# Altium schematic symbol library HSBNE-MAIN.SCHLIB: 49 symbols
Pins are listed as number, name and electrical type; pins without a type are passive.

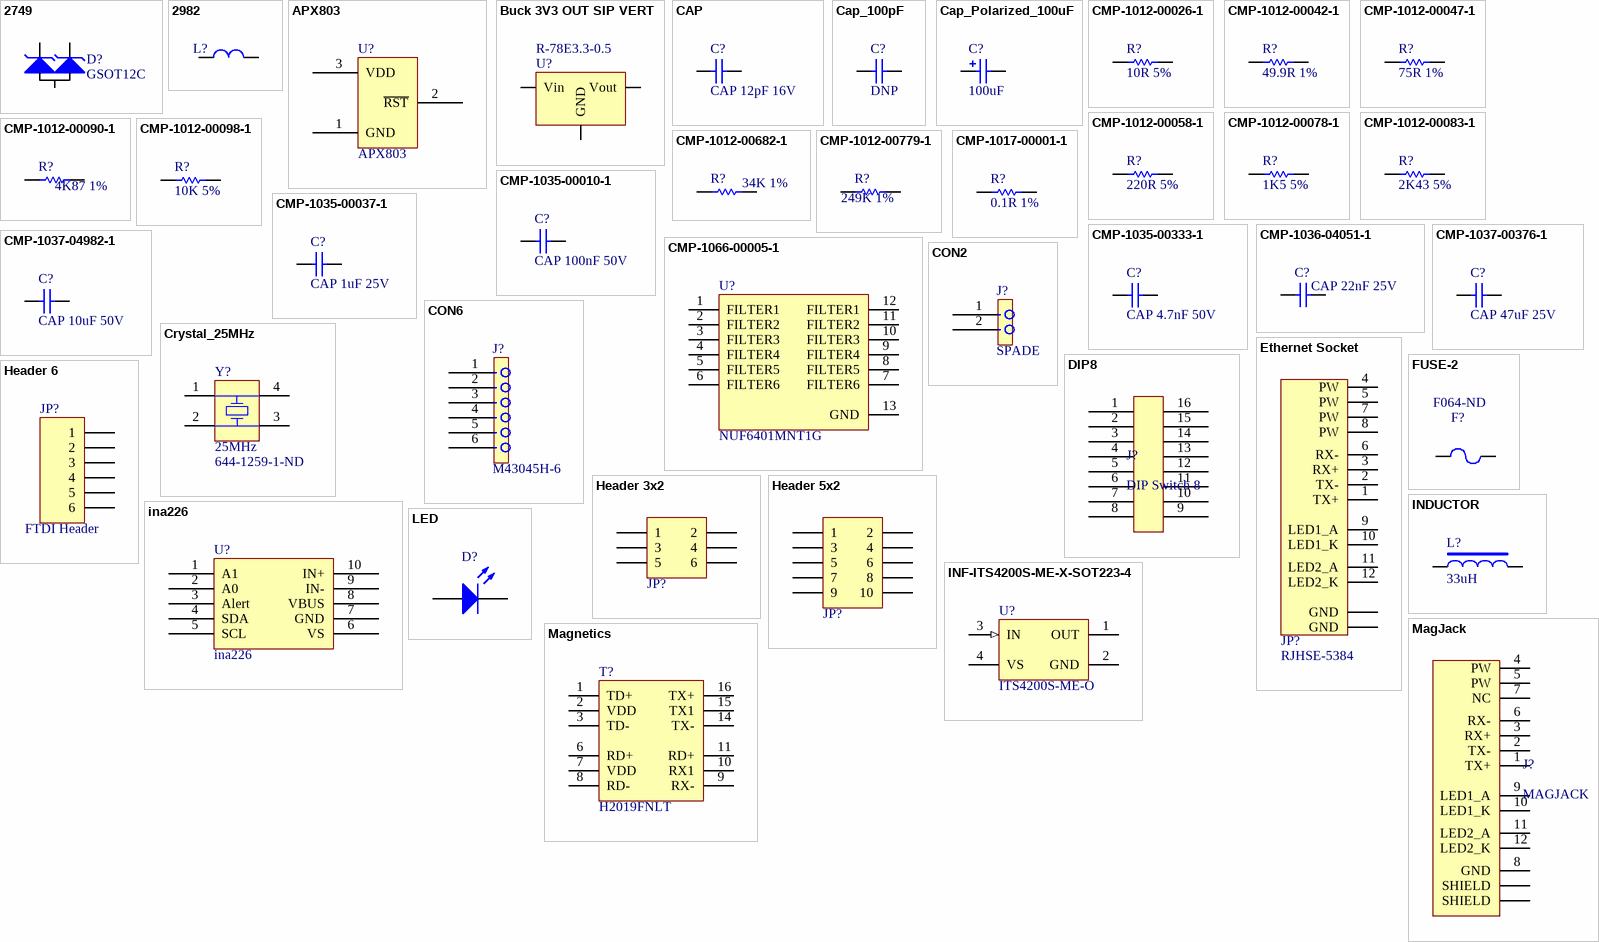
[diagram p0: symbols 2749 to Magnetics]

## 2749
designator D?, comment GSOT12C
DIO GSOT12C ESD 2LINE 12V SOT23; MPN: GSOT12C-E3-08; COST1K: 0.11250; COST10: 0.3750; COST100: 0.25000; MAN: Vishay Semiconductor Diodes Division; SPN: GSOT12C-E3-08DKR-ND; Supplier: Digi-Key
footprint SOT-23 - ESD
footprint SOT-23
pins: 1 K1, 2 K2, 3 A

## 2982
designator L?, comment MPZ1608S102A  (value not drawn)
IND FERRITE CHIP BEAD 1000 OHM @ 100MHz 800mA 0603; COST1K: 0.02717; COST10: 0.0790; COST100: 0.04720; MAN: TDK Corporation; SPN: 445-8694-6-ND; MPN: MPZ1608S102A; Supplier: Digi-Key
footprint 0603
pins: 1, 2

## APX803
designator U?
IC MPU RESET CIRC 3.08V SOT23R-3; Supplier 1: Digi-Key; Supplier Part Number 1: APX803-31SRG-7DICT-ND
footprint SOT-23 - ESD
pins: 1 GND, 2 ~{RST}, 3 VDD

## Buck 3V3 OUT SIP VERT
designator U?, comment R-78E3.3-0.5
3V3 OUT SIP VERT; Supplier 1: Digikey; Supplier Part Number 1: 945-1661-5-ND
footprint Buck_mod
pins: 1 Vin (power), 2 GND (power), 3 Vout (power)

## CAP
designator C?, comment CAP 12pF 16V
CAP 12pF 16V Â±0.25pF 0603 (1608 Metric) Thickness 1mm SMD; Case-EIA: 0603; Case-Metric: 1608; Technology: SMT; Value: 12pF; Max Thickness: 1 mm; Rated Voltage: 16 V; Tolerance: Â±0.25pF
footprint CAPC0603(1608)100_L (Chip Capacitor, Body 1.6x0.8mm, Height 1.0mm, IPC High Density)
footprint CAPC0603(1608)100_N (Chip Capacitor, Body 1.6x0.8mm, Height 1.0mm, IPC Medium Density)
footprint CAPC0603(1608)100_M (Chip Capacitor, Body 1.6x0.8mm, Height 1.0mm, IPC Low Density)
pins: 1, 2
1 alternate drawing of the same symbol

## Cap_100pF
designator C?, comment DNP
100nF; Published: 8-Jun-2000; LatestRevisionDate: 29-May-2009; LatestRevisionNote: IPC-7351 Footprint Added.; PackageReference: C1206; Publisher: Altium Limited; PackageDescription: Chip Capacitor; Value: 100nF; Supplier 1: Digi-Key; Supplier Part Number 1: 399-1096-1-ND; Supplier 2: Mouser; Supplier Part Number 2: 80-C0603C104K3R
simulation model CAP (Semiconductor Capacitor)
footprint 1210 (Chip Resistor; Body 3.2 x 1.6 mm (LxW typ))
footprint 0402 (Chip Resistor; Body 1.1 x 0.5 mm (LxW typ))
footprint 0603
footprint 604
pins: 1, 2

## Cap_Polarized_100uF
designator C?, comment 100uF
Polarized Capacitor (Surface Mount); Published: 8-Jun-2000; LatestRevisionDate: 29-May-2009; LatestRevisionNote: IPC-7351 Footprint Added.; PackageReference: C0805; Publisher: Altium Limited; PackageDescription: Chip Capacitor; Value: 100uF; Supplier 1: Digi-Key; Supplier 2: Mouser; Supplier Part Number 1: PCE4718CT-ND; Supplier Part Number 2: 667-EEE-HAJ101WAR
simulation model CAP (Capacitor)
signal-integrity model Cap Pol
footprint PANASONIC_C
footprint PANASONIC_E
footprint PANASONIC_H13
pins: +, -
1 alternate drawing of the same symbol

## CMP-1012-00026-1
designator R?, comment 10R 5%
10R 0.1W 5% 0603 (1608 Metric)  SMD; Case-Metric: 1608; Case-EIA: 0603; Value: 10.00 Ohm; Technology: SMT; Tolerance: 5 %; Power: 0.1 W
footprint RESC0603(1608)_L (Chip Resistor, Body 1.6x0.8mm, IPC High Density)
footprint RESC0603(1608)_N (Chip Resistor, Body 1.6x0.8mm, IPC Medium Density)
footprint RESC0603(1608)_M (Chip Resistor, Body 1.6x0.8mm, IPC Low Density)
pins: 1, 2
1 alternate drawing of the same symbol

## CMP-1012-00042-1
designator R?, comment 49.9R 1%
49.9R 0.1W 1% 0603 (1608 Metric)  SMD; Tolerance: 5 %; Value: 49.90 Ohm; Case-Metric: 1608; Case-EIA: 0603; Technology: SMT; Power: 0.1 W
footprint RESC0603(1608)_M (Chip Resistor, Body 1.6x0.8mm, IPC Low Density)
footprint RESC0603(1608)_N (Chip Resistor, Body 1.6x0.8mm, IPC Medium Density)
footprint RESC0603(1608)_L (Chip Resistor, Body 1.6x0.8mm, IPC High Density)
pins: 1, 2
1 alternate drawing of the same symbol

## CMP-1012-00047-1
designator R?, comment 75R 1%
75R 0.1W 1% 0603 (1608 Metric)  SMD; Case-EIA: 0603; Value: 75.00 Ohm; Case-Metric: 1608; Tolerance: 5 %; Technology: SMT; Power: 0.1 W
footprint RESC0603(1608)_N (Chip Resistor, Body 1.6x0.8mm, IPC Medium Density)
footprint RESC0603(1608)_L (Chip Resistor, Body 1.6x0.8mm, IPC High Density)
footprint RESC0603(1608)_M (Chip Resistor, Body 1.6x0.8mm, IPC Low Density)
pins: 1, 2
1 alternate drawing of the same symbol

## CMP-1012-00058-1
designator R?, comment 220R 5%
220R 0.1W 5% 0603 (1608 Metric)  SMD; Case-EIA: 0603; Case-Metric: 1608; Value: 220.00 Ohm; Technology: SMT; Power: 0.1 W; Tolerance: 5 %
footprint RESC0603(1608)_M (Chip Resistor, Body 1.6x0.8mm, IPC Low Density)
footprint RESC0603(1608)_N (Chip Resistor, Body 1.6x0.8mm, IPC Medium Density)
footprint RESC0603(1608)_L (Chip Resistor, Body 1.6x0.8mm, IPC High Density)
pins: 1, 2
1 alternate drawing of the same symbol

## CMP-1012-00078-1
designator R?, comment 1K5 5%
1K5 0.1W 5% 0603 (1608 Metric)  SMD; Case-Metric: 1608; Case-EIA: 0603; Value: 1500.00 Ohm; Technology: SMT; Power: 0.1 W; Tolerance: 5 %
footprint RESC0603(1608)_M (Chip Resistor, Body 1.6x0.8mm, IPC Low Density)
footprint RESC0603(1608)_N (Chip Resistor, Body 1.6x0.8mm, IPC Medium Density)
footprint RESC0603(1608)_L (Chip Resistor, Body 1.6x0.8mm, IPC High Density)
pins: 1, 2
1 alternate drawing of the same symbol

## CMP-1012-00083-1
designator R?, comment 2K43 5%
2K43 0.1W 5% 0603 (1608 Metric)  SMD; Value: 2430.00 Ohm; Case-Metric: 1608; Case-EIA: 0603; Tolerance: 5 %; Technology: SMT; Power: 0.1 W
footprint RESC0603(1608)_M (Chip Resistor, Body 1.6x0.8mm, IPC Low Density)
footprint RESC0603(1608)_L (Chip Resistor, Body 1.6x0.8mm, IPC High Density)
footprint RESC0603(1608)_N (Chip Resistor, Body 1.6x0.8mm, IPC Medium Density)
pins: 1, 2
1 alternate drawing of the same symbol

## CMP-1012-00090-1
designator R?, comment 4K87 1%
4K87 0.1W 1% 0603 (1608 Metric)  SMD; Tolerance: 5 %; Case-Metric: 1608; Value: 4K87.00 Ohm; Case-EIA: 0603; Technology: SMT; Power: 0.1 W
footprint RESC0603(1608)_N (Chip Resistor, Body 1.6x0.8mm, IPC Medium Density)
footprint RESC0603(1608)_M (Chip Resistor, Body 1.6x0.8mm, IPC Low Density)
footprint RESC0603(1608)_L (Chip Resistor, Body 1.6x0.8mm, IPC High Density)
pins: 1, 2
1 alternate drawing of the same symbol

## CMP-1012-00098-1
designator R?, comment 10K 5%
10K 0.1W 5% 0603 (1608 Metric)  SMD; Case-EIA: 0603; Value: 10000.00 Ohm; Case-Metric: 1608; Technology: SMT; Tolerance: 5 %; Power: 0.1 W
footprint RESC0603(1608)_N (Chip Resistor, Body 1.6x0.8mm, IPC Medium Density)
footprint RESC0603(1608)_L (Chip Resistor, Body 1.6x0.8mm, IPC High Density)
footprint RESC0603(1608)_M (Chip Resistor, Body 1.6x0.8mm, IPC Low Density)
pins: 1, 2
1 alternate drawing of the same symbol

## CMP-1012-00682-1
designator R?, comment 34K 1%
34K 0.1W 1% 0603 (1608 Metric)  SMD; Value: 34000.00 Ohm; Case-EIA: 0603; Case-Metric: 1608; Tolerance: 1 %; Power: 0.1 W; Technology: SMT
footprint RESC0603(1608)_L (Chip Resistor, Body 1.6x0.8mm, IPC High Density)
footprint RESC0603(1608)_N (Chip Resistor, Body 1.6x0.8mm, IPC Medium Density)
footprint RESC0603(1608)_M (Chip Resistor, Body 1.6x0.8mm, IPC Low Density)
pins: 1, 2
1 alternate drawing of the same symbol

## CMP-1012-00779-1
designator R?, comment 249K 1%
249K 0.1W 1% 0603 (1608 Metric)  SMD; Case-Metric: 1608; Case-EIA: 0603; Value: 249000.00 Ohm; Technology: SMT; Power: 0.1 W; Tolerance: 1 %
footprint RESC0603(1608)_L (Chip Resistor, Body 1.6x0.8mm, IPC High Density)
footprint RESC0603(1608)_N (Chip Resistor, Body 1.6x0.8mm, IPC Medium Density)
footprint RESC0603(1608)_M (Chip Resistor, Body 1.6x0.8mm, IPC Low Density)
pins: 1, 2
1 alternate drawing of the same symbol

## CMP-1017-00001-1
designator R?, comment 0.1R 1%
0.1R 2010 1%; Case-Metric: 5025; Value: 0.10 Ohm; Case-EIA: 2010; Tolerance: None; Technology: SMT; Power: None
footprint RESC2010(5025)_M (Chip Resistor, Body 5.0x2.5mm, IPC Low Density)
footprint RESC2010(5025)_N (Chip Resistor, Body 5.0x2.5mm, IPC Medium Density)
footprint RESC2010(5025)_L (Chip Resistor, Body 5.0x2.5mm, IPC High Density)
pins: 1, 2
1 alternate drawing of the same symbol

## CMP-1035-00010-1
designator C?, comment CAP 100nF 50V
CAP 100nF 50V Â±0.1pF 0603 (1608 Metric) Thickness 1mm SMD; Case-Metric: 1608; Case-EIA: 0603; Tolerance: Â±0.1pF; Technology: SMT; Value: 100nF; Max Thickness: 1 mm; Rated Voltage: 50 V
footprint CAPC0603(1608)100_N (Chip Capacitor, Body 1.6x0.8mm, Height 1.0mm, IPC Medium Density)
footprint CAPC0603(1608)100_M (Chip Capacitor, Body 1.6x0.8mm, Height 1.0mm, IPC Low Density)
footprint CAPC0603(1608)100_L (Chip Capacitor, Body 1.6x0.8mm, Height 1.0mm, IPC High Density)
pins: 1, 2
1 alternate drawing of the same symbol

## CMP-1035-00037-1
designator C?, comment CAP 1uF 25V
CAP 1uF 25V Â±0.25pF 0603 (1608 Metric) Thickness 1mm SMD; Case-Metric: 1608; Case-EIA: 0603; Tolerance: Â±0.25pF; Max Thickness: 1 mm; Value: 1uF; Technology: SMT; Rated Voltage: 25 V
footprint CAPC0603(1608)100_L (Chip Capacitor, Body 1.6x0.8mm, Height 1.0mm, IPC High Density)
footprint CAPC0603(1608)100_M (Chip Capacitor, Body 1.6x0.8mm, Height 1.0mm, IPC Low Density)
footprint CAPC0603(1608)100_N (Chip Capacitor, Body 1.6x0.8mm, Height 1.0mm, IPC Medium Density)
pins: 1, 2
1 alternate drawing of the same symbol

## CMP-1035-00333-1
designator C?, comment CAP 4.7nF 50V
CAP 4.7nF 50V Â±20% 0603 (1608 Metric) Thickness 1mm SMD; Case-EIA: 0603; Case-Metric: 1608; Max Thickness: 1 mm; Rated Voltage: 50 V; Technology: SMT; Tolerance: Â±20%; Value: 4.7nF
footprint CAPC0603(1608)100_N (Chip Capacitor, Body 1.6x0.8mm, Height 1.0mm, IPC Medium Density)
footprint CAPC0603(1608)100_L (Chip Capacitor, Body 1.6x0.8mm, Height 1.0mm, IPC High Density)
footprint CAPC0603(1608)100_M (Chip Capacitor, Body 1.6x0.8mm, Height 1.0mm, IPC Low Density)
pins: 1, 2
1 alternate drawing of the same symbol

## CMP-1036-04051-1
designator C?, comment CAP 22nF 25V
CAP 22nF 25V Â±5% 0805 (2012 Metric) Thickness 1mm SMD; Case-Metric: 2012; Case-EIA: 0805; Technology: SMT; Max Thickness: 1 mm; Value: 22nF; Rated Voltage: 25 V; Tolerance: Â±5%
footprint CAPC0805(2012)100_N (Chip Capacitor, Body 2.0x1.2mm, Height 1.0mm, IPC Medium Density)
footprint CAPC0805(2012)100_M (Chip Capacitor, Body 2.0x1.2mm, Height 1.0mm, IPC Low Density)
footprint CAPC0805(2012)100_L (Chip Capacitor, Body 2.0x1.2mm, Height 1.0mm, IPC High Density)
pins: 1, 2
1 alternate drawing of the same symbol

## CMP-1037-00376-1
designator C?, comment CAP 47uF 25V
CAP 47uF 25V Â±0.25pF 1206 (3216 Metric) Thickness 1mm SMD; Case-EIA: 1206; Case-Metric: 3216; Technology: SMT; Max Thickness: 1 mm; Value: 47uF; Tolerance: Â±0.25pF; Rated Voltage: 25 V
footprint CAPC1206(3216)100_L (Chip Capacitor, Body 3.2x1.6mm, Height 1mm, IPC High Density)
footprint CAPC1206(3216)100_M (Chip Capacitor, Body 3.2x1.6mm, Height 1mm, IPC Low Density)
footprint CAPC1206(3216)100_N (Chip Capacitor, Body 3.2x1.6mm, Height 1mm, IPC Medium Density)
pins: 1, 2
1 alternate drawing of the same symbol

## CMP-1037-04982-1
designator C?, comment CAP 10uF 50V
CAP 10uF 50V Â±10% 1206 (3216 Metric) Thickness 1.9mm SMD; Case-EIA: 1206; Case-Metric: 3216; Technology: SMT; Tolerance: Â±10%; Max Thickness: 1.9 mm; Value: 10uF; Rated Voltage: 50 V
footprint CAPC1206(3216)190_M (Chip Capacitor, Body 3.2x1.6mm, Height 1.9mm, IPC Low Density)
footprint CAPC1206(3216)190_N (Chip Capacitor, Body 3.2x1.6mm, Height 1.9mm, IPC Medium Density)
footprint CAPC1206(3216)190_L (Chip Capacitor, Body 3.2x1.6mm, Height 1.9mm, IPC High Density)
pins: 1, 2
1 alternate drawing of the same symbol

## CMP-1066-00005-1
designator U?, comment NUF6401MNT1G
6-Channel EMI Filter with Integrated ESD Protection, -40 to 105 degC, 12-Pin DFN, Pb-Free, Tape and Reel; Manufacturer: On Semiconductor; Number of Lines: 6; VRWM Max (V): 5; V(BR) Typ (V): 7; PackageReference: DFN-12-506AD-01; PartNumber: NUF6401MNT1G; ComponentLink3Description: Package Specification; RoHS: Pb-Free; Mounting Technology: Surface Mount; ComponentLink2Description: Datasheet; ComponentLink1Description: Manufacturer URL; PackageDescription: 12-Pin Small Outline No-Lead, Body 3 x 1.35 mm, Pitch 0.5 mm; Packing: Tape and Reel; DatasheetVersion: Rev. 2; ComponentLink2URL: http://www.onsemi.com/pub_link/Collateral/NUF6401-D.PDF; PackageVersion: Rev. J, 07/2008; ComponentLink3URL: http://www.onsemi.com/pub_link/Collateral/506AD.PDF; ComponentLink1URL: http://www.onsemi.com/
footprint ONSC-DFN-12-506AD-01_V (SON, 12-Leads, Body 3x1.35mm, Pitch 0.5mm, Thermal Pad 2.352x0.351mm)
pins: 1 FILTER1 "Filter + ESD Channel 1", 2 FILTER2 "Filter + ESD Channel 2", 3 FILTER3 "Filter + ESD Channel 3", 4 FILTER4 "Filter + ESD Channel 4", 5 FILTER5 "Filter + ESD Channel 5", 6 FILTER6 "Filter + ESD Channel 6", 7 FILTER6 "Filter + ESD Channel 6", 8 FILTER5 "Filter + ESD Channel 5", 9 FILTER4 "Filter + ESD Channel 4", 10 FILTER3 "Filter + ESD Channel 3", 11 FILTER2 "Filter + ESD Channel 2", 12 FILTER1 "Filter + ESD Channel 1", 13 GND (power) "Ground"

## CON2
designator J?, comment SPADE
6.35mm right-angle 90° male spade terminal PCB mount; CID: 643; CID2: 643; CID3: 643
footprint M5569-2
footprint SPADE-6.35-RA
pins: 1, 2

## CON6
designator J?, comment M43045H-6
CID: 317
footprint M43045H-6
pins: 1, 2, 3, 4, 5, 6

## Crystal_25MHz
designator Y?, comment Supplier Part Number 1: 644-1259-1-ND  (hidden comment: 25MHz)
Surface Mount Quartz Crystal; Note: PCB layout complies with manufacturer's recommendation.; Published: 17-Jul-2002; DatasheetDocument: 28-Aug-2001; PackageDocument: 28-Aug-2001; PackageReference: 91SMX; Publisher: Altium Limited; ComponentLink1Description: Manufacturer Link; ComponentLink1URL: http://www.cmac.com/mt/; ComponentLink2Description: Datasheet; ComponentLink2URL: http://www.cmac.com/mt/databook/crystals/smd/90_91_smx.pdf; Value: 25MHz; Supplier 1: Digi-Key
footprint Crystal 3.2x2.5
pins: 1 OSC1, 2 OSC2, 3 OSC2, 4 OSC1

## DIP8
designator J?, comment DIP Switch 8
Supplier 1: Digikey; Supplier Part Number 1: CT3111-ND
footprint DIP8
pins: 1, 2, 3, 4, 5, 6, 7, 8, 9, 10, 11, 12, 13, 14, 15, 16

## Ethernet Socket
designator JP?, comment RJHSE-5384
Ethernet Socket RJ45 With Leds; Supplier 1: Digi-Key; Supplier 2: Mouser; Supplier Part Number 1: RJHSE-5384-ND; Supplier Part Number 2: 523-RJHSE-5484
footprint RJHSE-5484
pins: 1 TX+, 2 TX-, 3 RX+, 4 PW, 5 PW, 6 RX-, 7 PW, 8 PW, 9 LED1_A, 10 LED1_K, 11 LED2_A, 12 LED2_K, GND1 GND, GND2 GND

## FUSE-2
designator F?  Supplier Part Number 1: F064-ND
Supplier 1: Digi-Key
footprint FUSE_HOLDER (01530007Z)
pins: 1, 2

## Header 3x2
designator JP?, comment Header 3x2 2.54mm  (value not drawn)
Header, 6-Pin; Supplier 1: Digi-Key; Supplier 2: Mouser; Supplier Part Number 1: 952-1788-ND; Supplier Part Number 2: 855-M20-9980446
footprint 2X3
pins: 1, 2, 3, 4, 5, 6

## Header 5x2
designator JP?, comment Header 5x2 2.54mm  (value not drawn)
Header, 8-Pin; Supplier 1: Farnell; Supplier Part Number 1: 1593440
footprint 2X5
pins: 1, 2, 3, 4, 5, 6, 7, 8, 9, 10

## Header 6
designator JP?, comment FTDI Header
Header, 6-Pin; Supplier 1: Digi-Key; Supplier 2: Mouser; Supplier Part Number 1: 952-2270-ND; Supplier Part Number 2: 538-90120-1086
footprint 1X06_SMD_STRAIGHT_ALT
footprint 1X6
pins: 1, 2, 3, 4, 5, 6

## ina226
designator U?
Supplier 1: Digi-Key; Supplier Part Number 1: 296-29034-1-ND
footprint SP10
pins: 1 A1, 2 A0, 3 Alert, 4 SDA, 5 SCL, 6 VS, 7 GND, 8 VBUS, 9 IN-, 10 IN+

## INDUCTOR
designator L?, comment 33uH
General Inductor; CID: 2749
footprint CR43
footprint ELC08DXXXE
footprint 1422311
footprint CDRH127
footprint SRR6603
pins: 1, 2

## INF-ITS4200S-ME-X-SOT223-4
designator U?, comment ITS4200S-ME-O
Smart High-Side NMOS-Power Switch, 11 to 45 V Operating, -40 to 125 degC, SOT223, Reel, Green; Manufacturer: Infineon; Channels: 1; IL (nom)min - one channel active: 0.7Â A; Green: TRUE; Operating Voltage Range (min): 11 V; RON (max) @ Tj max: 320 mOhm; Operating Voltage Range (max): 45 V; Ptot (max): 1.4Â W; toff (max): 150 us; RON @ 25 degC: 200 mOhm (max); IL (SCp): 1.4Â A; IL (SC): 1.1Â A; ton (max): 100 us; Packing: Reel; IL (nom)min - all channels active: 0.7Â A; ComponentLink2Description: Datasheet; Load Current (typ): 0.7Â A; ComponentLink1Description: Manufacturer URL; PackageDescription: 4-Pin Small Outline Transistor Package, 6.5 x 3.5 mm Body, 2.3 mm Pitch; Mounting Technology: Surface Mount; ComponentLink1URL: http://www.infineon.com/; ComponentLink2URL: http://www.infineon.com/dgdl/ITS4200S-ME-O_01092012S.pdf?folderId=db3a304412b407950112b408e8c90004&fileId=db3a304339dcf4b1013a013fb7455740; ComponentLink3URL: http://www.infineon.com/dgdl/SOT223-Package_Overview.pdf?folderId=db3a30431936bc4b0119530470b03c3d&fileId=db3a30431936bc4b0119531d40b93c5c; PackageReference: SOT223; ComponentLink3Description: Package Specification; PartNumber: ITS4200S-ME-O; DatasheetVersion: Rev. 1.0; PackageVersion: Apr-08
footprint INF-SOT223_M (SOT223, 4-Leads, Body 6.5x3.5mm, Pitch 2.3mm, IPC Low Density)
footprint INF-SOT223_L (SOT223, 4-Leads, Body 6.5x3.5mm, Pitch 2.3mm, IPC High Density)
footprint INF-SOT223_N (SOT223, 4-Leads, Body 6.5x3.5mm, Pitch 2.3mm, IPC Medium Density)
pins: 1 OUT (power) "Output to the load", 2 GND (power) "Logic ground", 3 IN (in) "Input, controles the power switch; the powerswitch is ON when high", 4 VS (power) "Supply voltage (design the wiring for the maximum short circuit current and also for low thermal resistance)"

## LED
designator D?  (value not drawn)
Typical RED, GREEN, YELLOW, AMBER GaAs LED; Published: 8-Jun-2000; LatestRevisionDate: 17-Jul-2002; LatestRevisionNote: Re-released for DXP Platform.; PackageVersion: Feb-2002; PackageReference: 3.2X1.6X1.1; Publisher: Altium Limited; PackageDescription: SM LED; 2 Flat Leads; Supplier 1: Digi-Key; Supplier 2: Mouser; Supplier Part Number 1: 475-1409-1-ND; Supplier Part Number 2: 720-LGQ971-KN-1
footprint 3.2X1.6X1.1 (SMT LED; 2 Flat Leads)
simulation model LED2 (Diode)
footprint LED-0603
pins: 1 A, 2 K

## MagJack
designator J?, comment MAGJACK
Supplier 1: Digikey; Supplier Part Number 1: ARJC02-111008B-ND
footprint magjack
pins: 1 TX+, 2 TX-, 3 RX+, 4 PW, 5 PW, 6 RX-, 7 NC, 8 GND, 9 LED1_A, 10 LED1_K, 11 LED2_A, 12 LED2_K, GND1 SHIELD, GND2 SHIELD

## Magnetics
designator T?, comment H2019FNLT
Power over Ethernet Magnetic Module; Published: 24-Mar-1999; LatestRevisionDate: 17-Jul-2002; LatestRevisionNote: Re-released for DXP Platform.; PackageReference: MODULE5B; Publisher: Altium Limited; Supplier 1: Digi-Key; Supplier 2: Mouser; Supplier Part Number 2: 673-H2019FNLT
footprint HXXXX
pins: 1 TD+, 2 VDD, 3 TD-, 6 RD+, 7 VDD, 8 RD-, 9 RX-, 10 RX1, 11 RD+, 14 TX-, 15 TX1, 16 TX+

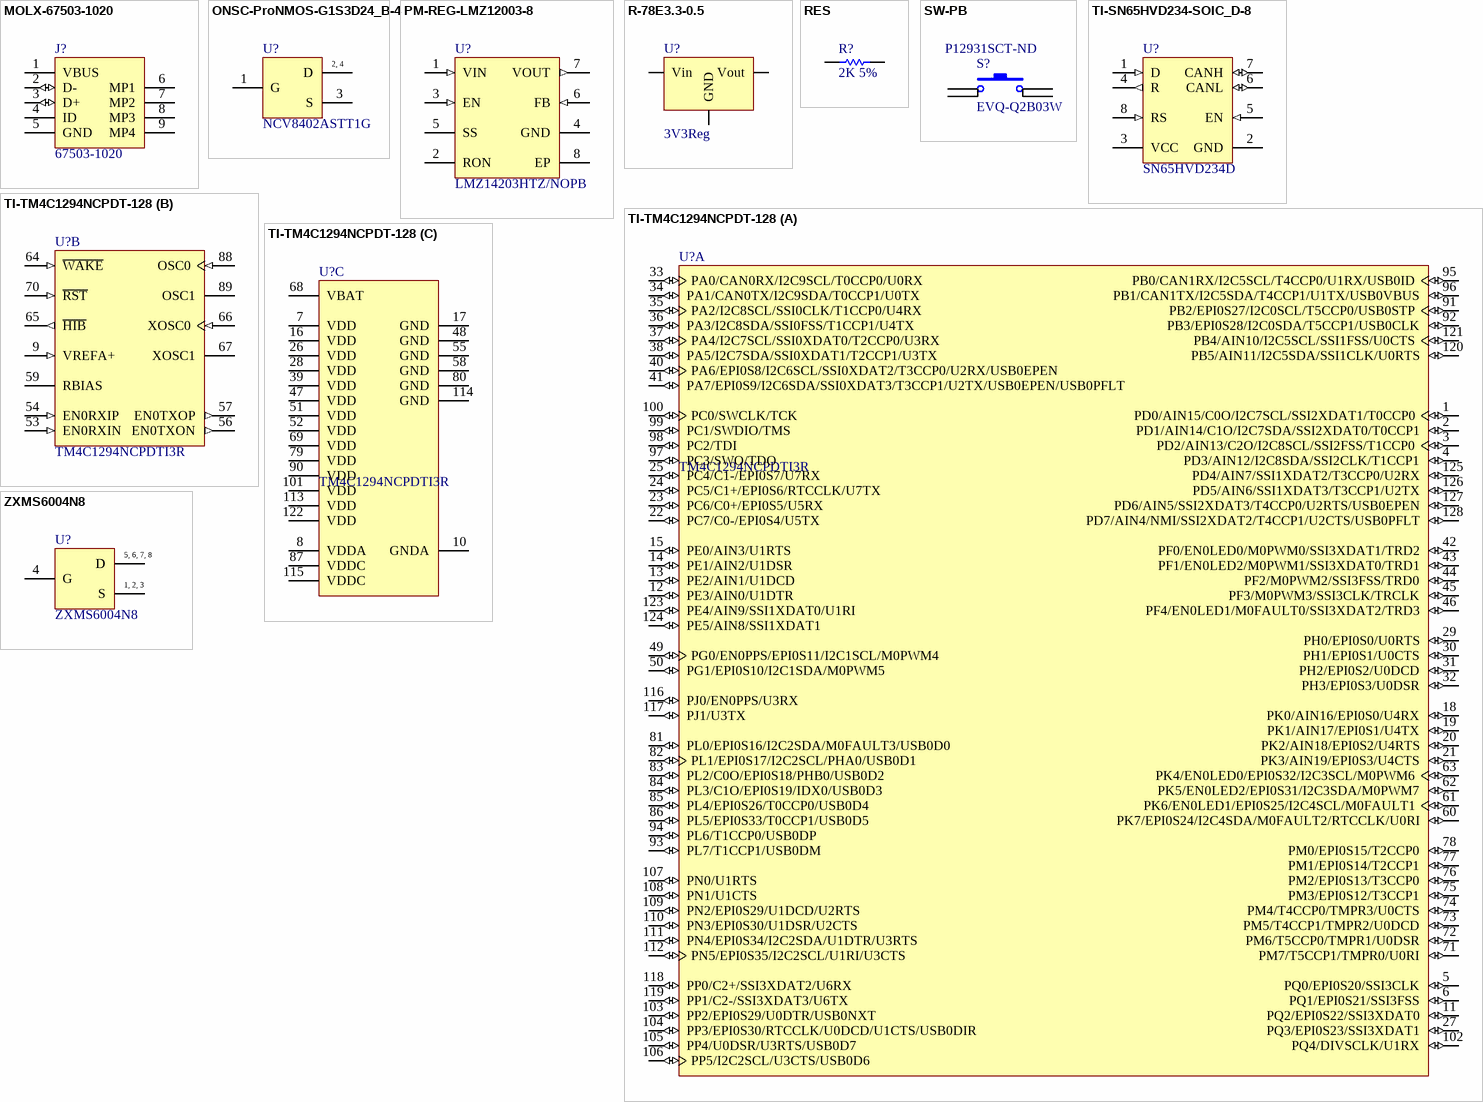
[diagram p1: symbols MOLX-67503-1020 to ZXMS6004N8]

## MOLX-67503-1020
designator J?, comment 67503-1020
USB, MINI, SMD, RA KME04-USBMU03A01; Manufacturer: Molex; ComponentLink1URL: http://www.molex.com/; PartNumber: 67503-1020; Mounting Technology: Surface Mount; ComponentLink1Description: Manufacturer URL; Terminal Pitch: 0.8 mm; DatasheetVersion: Rev F, 06/2009; ComponentLink2Description: Datasheet; PackageDescription: Mini USB Connector, SMT, Righer Angle; ComponentLink2URL: http://www.molex.com/pdm_docs/sd/675031020_sd.pdf; PackageReference: 67503-1020
footprint MOLX-67503-1020_V (Mini USB Connector, SMT, Righer Angle)
pins: 1 VBUS (power), 2 D- (io), 3 D+ (io), 4 ID, 5 GND (power), 6 MP1, 7 MP2, 8 MP3, 9 MP4

## ONSC-ProNMOS-G1S3D24_B-4
designator U?, comment NCV8402ASTT1G
Self-Protected Low Side Driver with Temperature and Current Limit, 4-Pin SOT-223, Pb-Free, Tape and Reel; Manufacturer: On Semiconductor; Channel Polarity: N Channel; ComponentLink3Description: Package Specification; Packing: Tape and Reel; ComponentLink3URL: http://www.onsemi.com/pub_link/Collateral/318E-04.PDF; ComponentLink1URL: http://www.onsemi.com/; PartNumber: NCV8402ASTT1G; PackageDescription: 4-Pin Small Outline Transistor, Body 6.5 x 3.5 mm, Pitch 2.3 mm; DatasheetVersion: Rev. 8; ComponentLink1Description: Manufacturer URL; Mounting Technology: Surface Mount; PackageVersion: Rev. N, 08/2009; PackageReference: SOT-223-4-318E-04; ComponentLink2URL: http://www.onsemi.com/pub_link/Collateral/NCV8402-D.PDF; ComponentLink2Description: Datasheet; RoHS: Pb-Free
footprint ONSC-SOT-223-4-318E-04_V (SOT223, 4-Leads, Body 6.5x3.5mm, Pitch 2.3mm)
pins: 1 G, 2 D, 3 S, 4 D
text: 2, 4

## PM-REG-LMZ12003-8
designator U?, comment LMZ14203HTZ/NOPB
3A SIMPLE SWITCHERÂ® Power Module with 42V Maximum Input for High Voltage Output, 7-pin TO-PMOD, Pb-Free, 250 Reel; Manufacturer: National Semiconductor; PowerWise: Y; PackageTopMarking: NSUZXYTTE#*LMZ14203*HTZ; ComponentLink3URL: http://www.national.com/packaging/folders/tza07a.html; ComponentLink2URL: http://www.national.com/pf/LM/LMZ14203H.html; ComponentLink1Description: LMZ14203 Datasheet; PackageVersion: revD, Apr-2011; RoHS: Y; DatasheetVersion: Jan-2011; PinCount: 7; CompType: Switcher; PackageDescription: TO-PMOD-7, 10.16 x 9.85 x 4.57 mm Body, 7 Lead, 1.27mm Pitch, Surface Mount; PackageReference: TZA07A; ComponentLink1URL: http://www.national.com/ds/LM/LMZ14203H.pdf; ComponentLink3Description: TZA07A Package Page; ComponentLink2Description: LMZ14203H Web Page
footprint TZA07A_V (D2-PAK, 8-Leads, Body 9.9x10.2mm, Pitch 1.27mm, Lead Span 13.8mm, NSC Recommended)
pins: 1 VIN (in), 2 RON, 3 EN (in), 4 GND (power), 5 SS, 6 FB (in), 7 VOUT (out), 8 EP

## R-78E3.3-0.5
designator U?, comment 3V3Reg
CONV DC/DC 1A 3V3 OUT SIP VERT; Supplier 1: Digi-Key; Supplier Part Number 1: 945-1661-5-ND
footprint R-78CXX (CONV DC/DC 1A 5V OUT SIP VERT)
pins: 1 Vin (power), 2 GND (power), 3 Vout (power)

## RES
designator R?, comment 2K 5%
2K 0.1W 5% 0603 (1608 Metric)  SMD; Case-Metric: 1608; Value: 2000.00 Ohm; Case-EIA: 0603; Tolerance: 5 %; Technology: SMT; Power: 0.1 W
footprint RESC0603(1608)_N (Chip Resistor, Body 1.6x0.8mm, IPC Medium Density)
footprint RESC0603(1608)_M (Chip Resistor, Body 1.6x0.8mm, IPC Low Density)
footprint RESC0603(1608)_L (Chip Resistor, Body 1.6x0.8mm, IPC High Density)
pins: 1, 2
1 alternate drawing of the same symbol

## SW-PB
designator S?, comment EVQ-Q2B03W  Supplier Part Number 1: P12931SCT-ND
Switch; Published: 24-Mar-1999; LatestRevisionDate: 17-Jul-2002; LatestRevisionNote: Re-released for DXP Platform.; PackageReference: SPST-2; Publisher: Altium Limited; PackageDescription: Switch; 2 Leads; Supplier 1: Digi-Key
footprint TACTILE_SWITCH_SMD
pins: 1, 2, 3, 4

## TI-SN65HVD234-SOIC_D-8
designator U?, comment SN65HVD234D
3.3V CAN Transceiver with Sleep Mode, 6 mA, -40 to 125 degC, 8-pin SOIC (D), Green (RoHS & no Sb/Br); Manufacturer: Texas Instruments; Receivers Per Package: 1; ICC(Max)(mA): 6; Bus Fault Voltage(V): +/-30; Supply Voltage(s)(V): 3.3; Rating: Catalog; Transient Pulse Protection(V): -100 to 100; PartNumber: SN65HVD234D; SubFamily: CAN; DatasheetVersion: SLLS557F; Mounting Technology: Surface Mount; Eco-Plan: Green (RoHS & no Sb/Br); PackageVersion: revM, Jun-2011; PackageReference: D8; ComponentLink1Description: Datasheet; Drivers Per Package: 1; Isolated: No; ComponentLink1URL: http://www.ti.com/general/docs/lit/getliterature.tsp?genericPartNumber=SN65HVD234&fileType=pdf; PackageDescription: 8-Pin Plastic Small Outline Integrated Circuit, 4.9 x 3.9 mm, Pitch 1.27 mm Pitch; Code_JEDEC: MS-012AA; Low Power Mode: Sleep; Footprint: PCA82C250, excludes pin5
footprint D8_M (SOIC, 8-Leads, Body 4.9x3.9mm, Pitch 1.27mm, IPC Low Density)
footprint D8_L (SOIC, 8-Leads, Body 4.9x3.9mm, Pitch 1.27mm, IPC High Density)
footprint D8_N (SOIC, 8-Leads, Body 4.9x3.9mm, Pitch 1.27mm, IPC Medium Density)
pins: 1 D (in), 2 GND (power), 3 VCC (power), 4 R (out), 5 EN (in), 6 CANL (io), 7 CANH (io), 8 RS (in)

## TI-TM4C1294NCPDT-128
designator U?, comment TM4C1294NCPDTI3R
Tiva C Series Microcontroller, 1024 KB Flash, 256 KB SRAM, 12 Bit, 20 Channels, -40 to 85 degC, 128-Pin TQFP (PDT), Green (RoHS & no Sb/Br), Tape and Reel; Manufacturer: Texas Instruments; SRAM: 256 KB; ADC Resolution: 12 Bits; ADC Channels: 20; Flash: 1024 KB; Max Speed: 120 MHz; CPU: ARM Cortex-M4; Packing: Tape and Reel; Mounting Technology: Surface Mount; Eco-Plan: Green (RoHS & no Sb/Br); ComponentLink1URL: http://www.ti.com/; ComponentLink3Description: Package Specification; ComponentLink2Description: Datasheet; PartNumber: TM4C1294NCPDTI3R; DatasheetVersion: 15863.2743; ComponentLink1Description: Manufacturer URL; ComponentLink3URL: http://www.ti.com/lit/ml/mpqf013/mpqf013.pdf; Temperature Range: -40 to 85 degC; ComponentLink2URL: http://www.ti.com/lit/ds/symlink/tm4c1294ncpdt.pdf; PackageVersion: 4087726/A; PackageDescription: 128-Pin Thin Quad Flat Package, Body 14 x 14 mm, Pitch 0.4 mm; PartId: 2
footprint TI-PDT128_M (Thin QFP, 128-Leads, Body 14x14mm, Pitch 0.4mm, IPC Low Density)
footprint TI-PDT128_N (Thin QFP, 128-Leads, Body 14x14mm, Pitch 0.4mm, IPC Medium Density)
footprint TI-PDT128_L (Thin QFP, 128-Leads, Body 14x14mm, Pitch 0.4mm, IPC High Density)
part A pins: 1 PD0/AIN15/C0O/I2C7SCL/SSI2XDAT1/T0CCP0 (io), 2 PD1/AIN14/C1O/I2C7SDA/SSI2XDAT0/T0CCP1 (io), 3 PD2/AIN13/C2O/I2C8SCL/SSI2FSS/T1CCP0 (io), 4 PD3/AIN12/I2C8SDA/SSI2CLK/T1CCP1 (io), 5 PQ0/EPI0S20/SSI3CLK (io), 6 PQ1/EPI0S21/SSI3FSS (io), 11 PQ2/EPI0S22/SSI3XDAT0 (io), 12 PE3/AIN0/U1DTR (io), 13 PE2/AIN1/U1DCD (io), 14 PE1/AIN2/U1DSR (io), 15 PE0/AIN3/U1RTS (io), 18 PK0/AIN16/EPI0S0/U4RX (io), 19 PK1/AIN17/EPI0S1/U4TX (io), 20 PK2/AIN18/EPI0S2/U4RTS (io), 21 PK3/AIN19/EPI0S3/U4CTS (io), 22 PC7/C0-/EPI0S4/U5TX (io), 23 PC6/C0+/EPI0S5/U5RX (io), 24 PC5/C1+/EPI0S6/RTCCLK/U7TX (io), 25 PC4/C1-/EPI0S7/U7RX (io), 27 PQ3/EPI0S23/SSI3XDAT1 (io), 29 PH0/EPI0S0/U0RTS (io), 30 PH1/EPI0S1/U0CTS (io), 31 PH2/EPI0S2/U0DCD (io), 32 PH3/EPI0S3/U0DSR (io), 33 PA0/CAN0RX/I2C9SCL/T0CCP0/U0RX (io), 34 PA1/CAN0TX/I2C9SDA/T0CCP1/U0TX (io), 35 PA2/I2C8SCL/SSI0CLK/T1CCP0/U4RX (io), 36 PA3/I2C8SDA/SSI0FSS/T1CCP1/U4TX (io), 37 PA4/I2C7SCL/SSI0XDAT0/T2CCP0/U3RX (io), 38 PA5/I2C7SDA/SSI0XDAT1/T2CCP1/U3TX (io), 40 PA6/EPI0S8/I2C6SCL/SSI0XDAT2/T3CCP0/U2RX/USB0EPEN (io), 41 PA7/EPI0S9/I2C6SDA/SSI0XDAT3/T3CCP1/U2TX/USB0EPEN/USB0PFLT (io), 42 PF0/EN0LED0/M0PWM0/SSI3XDAT1/TRD2 (io), 43 PF1/EN0LED2/M0PWM1/SSI3XDAT0/TRD1 (io), 44 PF2/M0PWM2/SSI3FSS/TRD0 (io), 45 PF3/M0PWM3/SSI3CLK/TRCLK (io), 46 PF4/EN0LED1/M0FAULT0/SSI3XDAT2/TRD3 (io), 49 PG0/EN0PPS/EPI0S11/I2C1SCL/M0PWM4 (io), 50 PG1/EPI0S10/I2C1SDA/M0PWM5 (io), 60 PK7/EPI0S24/I2C4SDA/M0FAULT2/RTCCLK/U0RI (io), 61 PK6/EN0LED1/EPI0S25/I2C4SCL/M0FAULT1 (io), 62 PK5/EN0LED2/EPI0S31/I2C3SDA/M0PWM7 (io), 63 PK4/EN0LED0/EPI0S32/I2C3SCL/M0PWM6 (io), 71 PM7/T5CCP1/TMPR0/U0RI (io), 72 PM6/T5CCP0/TMPR1/U0DSR (io), 73 PM5/T4CCP1/TMPR2/U0DCD (io), 74 PM4/T4CCP0/TMPR3/U0CTS (io), 75 PM3/EPI0S12/T3CCP1 (io), 76 PM2/EPI0S13/T3CCP0 (io), 77 PM1/EPI0S14/T2CCP1 (io), 78 PM0/EPI0S15/T2CCP0 (io), 81 PL0/EPI0S16/I2C2SDA/M0FAULT3/USB0D0 (io), 82 PL1/EPI0S17/I2C2SCL/PHA0/USB0D1 (io), 83 PL2/C0O/EPI0S18/PHB0/USB0D2 (io), 84 PL3/C1O/EPI0S19/IDX0/USB0D3 (io), 85 PL4/EPI0S26/T0CCP0/USB0D4 (io), 86 PL5/EPI0S33/T0CCP1/USB0D5 (io), 91 PB2/EPI0S27/I2C0SCL/T5CCP0/USB0STP (io), 92 PB3/EPI0S28/I2C0SDA/T5CCP1/USB0CLK (io), 93 PL7/T1CCP1/USB0DM (io), 94 PL6/T1CCP0/USB0DP (io), 95 PB0/CAN1RX/I2C5SCL/T4CCP0/U1RX/USB0ID (io), 96 PB1/CAN1TX/I2C5SDA/T4CCP1/U1TX/USB0VBUS (io), 97 PC3/SWO/TDO (io), 98 PC2/TDI (io), 99 PC1/SWDIO/TMS (io), 100 PC0/SWCLK/TCK (io), 102 PQ4/DIVSCLK/U1RX (io), 103 PP2/EPI0S29/U0DTR/USB0NXT (io), 104 PP3/EPI0S30/RTCCLK/U0DCD/U1CTS/USB0DIR (io), 105 PP4/U0DSR/U3RTS/USB0D7 (io), 106 PP5/I2C2SCL/U3CTS/USB0D6 (io), 107 PN0/U1RTS (io), 108 PN1/U1CTS (io), 109 PN2/EPI0S29/U1DCD/U2RTS (io), 110 PN3/EPI0S30/U1DSR/U2CTS (io), 111 PN4/EPI0S34/I2C2SDA/U1DTR/U3RTS (io), 112 PN5/EPI0S35/I2C2SCL/U1RI/U3CTS (io), 116 PJ0/EN0PPS/U3RX (io), 117 PJ1/U3TX (io), 118 PP0/C2+/SSI3XDAT2/U6RX (io), 119 PP1/C2-/SSI3XDAT3/U6TX (io), 120 PB5/AIN11/I2C5SDA/SSI1CLK/U0RTS (io), 121 PB4/AIN10/I2C5SCL/SSI1FSS/U0CTS (io), 123 PE4/AIN9/SSI1XDAT0/U1RI (io), 124 PE5/AIN8/SSI1XDAT1 (io), 125 PD4/AIN7/SSI1XDAT2/T3CCP0/U2RX (io), 126 PD5/AIN6/SSI1XDAT3/T3CCP1/U2TX (io), 127 PD6/AIN5/SSI2XDAT3/T4CCP0/U2RTS/USB0EPEN (io), 128 PD7/AIN4/NMI/SSI2XDAT2/T4CCP1/U2CTS/USB0PFLT (io)
part B pins: 9 VREFA+ (in) "A reference voltage used to specify the voltage at which the ADC converts to a maximum value.", 53 EN0RXIN (in) "Ethernet PHY negative receive differential input.", 54 EN0RXIP (in) "Ethernet PHY positive receive differential input.", 56 EN0TXON (out) "Ethernet PHY negative transmit differential output.", 57 EN0TXOP (out) "Ethernet PHY positive transmit differential output.", 59 RBIAS "4.87-kOhm resistor (1% precision) for Ethernet PHY.", 64 ~{WAKE} (in) "An external input that brings the processor out of Hibernate mode when asserted.", 65 ~{HIB} (out) "An output that indicates the processor is in Hibernate mode.", 66 XOSC0 (in) "Hibernation module oscillator crystal input or an external clock reference input. Note that this is either a crystal or a 32.768-kHz oscillator for the Hibernation module RTC.", 67 XOSC1 "Hibernation module oscillator crystal output. Leave unconnected when using a single-ended clock source.", 70 ~{RST} (in) "System reset input.", 88 OSC0 (in) "Main oscillator crystal input or an external clock reference input.", 89 OSC1 "Main oscillator crystal output. Leave unconnected when using a single-ended clock source."
part C pins: 7 VDD (power) "Positive supply for I/O and some logic.", 8 VDDA (power) "The positive supply for the analog circuits (ADC, Analog Comparators, etc.).", 10 GNDA (power) "The ground reference for the analog circuits (ADC, Analog Comparators, etc.).", 16 VDD (power) "Positive supply for I/O and some logic.", 17 GND (power) "Ground reference for logic and I/O pins.", 26 VDD (power) "Positive supply for I/O and some logic.", 28 VDD (power) "Positive supply for I/O and some logic.", 39 VDD (power) "Positive supply for I/O and some logic.", 47 VDD (power) "Positive supply for I/O and some logic.", 48 GND (power) "Ground reference for logic and I/O pins.", 51 VDD (power) "Positive supply for I/O and some logic.", 52 VDD (power) "Positive supply for I/O and some logic.", 55 GND (power) "Ground reference for logic and I/O pins.", 58 GND (power) "Ground reference for logic and I/O pins.", 68 VBAT (power) "Power source for the Hibernation module. It is normally connected to the positive terminal of a battery and serves as the battery backup/Hibernation module power-source supply.", 69 VDD (power) "Positive supply for I/O and some logic.", 79 VDD (power) "Positive supply for I/O and some logic.", 80 GND (power) "Ground reference for logic and I/O pins.", 87 VDDC (power) "Positive supply for most of the logic function, including the processor core and most peripherals.", 90 VDD (power) "Positive supply for I/O and some logic.", 101 VDD (power) "Positive supply for I/O and some logic.", 113 VDD (power) "Positive supply for I/O and some logic.", 114 GND (power) "Ground reference for logic and I/O pins.", 115 VDDC (power) "Positive supply for most of the logic function, including the processor core and most peripherals.", 122 VDD (power) "Positive supply for I/O and some logic."

## ZXMS6004N8
designator U?
MOSFET N-CH 60V 1.3A S08; Manufacturer: On Semiconductor; PartNumber: NCV8402ASTT1G; Packing: Tape and Reel; Channel Polarity: N Channel; ComponentLink3Description: Package Specification; ComponentLink3URL: http://www.onsemi.com/pub_link/Collateral/318E-04.PDF; ComponentLink1URL: http://www.onsemi.com/; PackageDescription: 4-Pin Small Outline Transistor, Body 6.5 x 3.5 mm, Pitch 2.3 mm; DatasheetVersion: Rev. 8; ComponentLink1Description: Manufacturer URL; Mounting Technology: Surface Mount; PackageVersion: Rev. N, 08/2009; PackageReference: SOT-223-4-318E-04; ComponentLink2URL: http://www.onsemi.com/pub_link/Collateral/NCV8402-D.PDF; ComponentLink2Description: Datasheet; RoHS: Pb-Free
footprint SO-8
pins: 1 S, 2 S, 3 S, 4 G, 5 D, 6 D, 7 D, 8 D
text: 5, 6, 7, 8; 1, 2, 3